# EAGLE library part ESP-WROOM-02 (library sensor)
ESP8266 WROOM-02
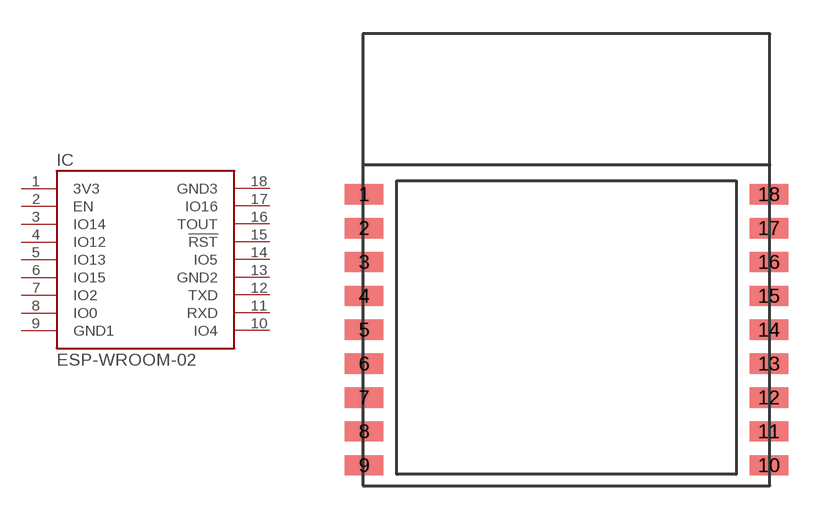
[diagram p0: symbol with the pads of WROOM-02; footprint WROOM-02]

Designator prefix IC

## ESP-WROOM-02  [WROOM-02]
1  3V3  pwr
2  EN  in
3  IO14
4  IO12
5  IO13
6  IO15
7  IO2
8  IO0
9  GND1  sup
10  IO4
11  RXD
12  TXD
13  GND2  sup
14  IO5
15  !RST!  in
16  TOUT
17  IO16
18  GND3  sup

## Footprint WROOM-02 (pad centres in mm)
smd 1.7 x 0.9: 1 -8.95,2.9; 2 -8.95,1.4; 3 -8.95,-0.1; 4 -8.95,-1.6; 5 -8.95,-3.1; 6 -8.95,-4.6; 7 -8.95,-6.1; 8 -8.95,-7.6; 9 -8.95,-9.1; 10 8.95,-9.1; 11 8.95,-7.6; 12 8.95,-6.1; 13 8.95,-4.6; 14 8.95,-3.1; 15 8.95,-1.6; 16 8.95,-0.1; 17 8.95,1.4; 18 8.95,2.9